# Altium footprint library 1760510000.PcbLib: 1 footprints
Each footprint in its own frame and in the unit in brackets; x right, y up, seen from the top. Pads: shape width x height; smd on the part's side, far side on the other; paste and mask are expansions set on the pad; w line width, h text height; cw(c..) or ccw(c..) is an arc to the next point about the centre after c.
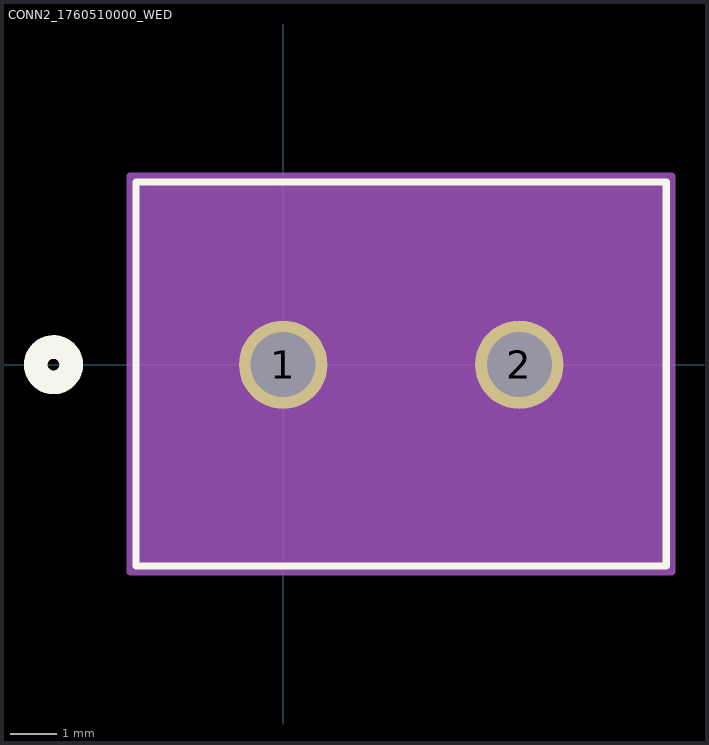
[diagram p0: the footprint, top view; thin cyan lines are the x and y axes]

## CONN2_1760510000_WED [mil]
pads (2):
  round 75 / inner round 60 / far side round 75 hole 55 paste-37.5 mask+0: 1(0,0) 2(200,0)
Top Overlay:
  circle w20: c-194.5,0 r15
  lines w6: -124.5,-170.39 324.5,-170.39 324.5,154.61 -124.5,154.61 -124.5,-170.39
Bottom Overlay:
  circle w20: c-194.5,0 r15
Mechanical 13:
  circle w20: c0,75 r15
  lines w1: -119.5,-165.39 319.5,-165.39 319.5,149.61 -119.5,149.61 -119.5,-165.39
Mechanical 15:
  region: 329.5,159.61 -129.5,159.61 -129.5,-175.39 329.5,-175.39
  lines w6: -129.5,-175.39 -129.5,159.61 329.5,159.61 329.5,-175.39 -129.5,-175.39